# EAGLE library part MK20DXXXXVLH7 (library lib_stankus)
Freescale MK20DXxxxVLH7 Farnell #2133573
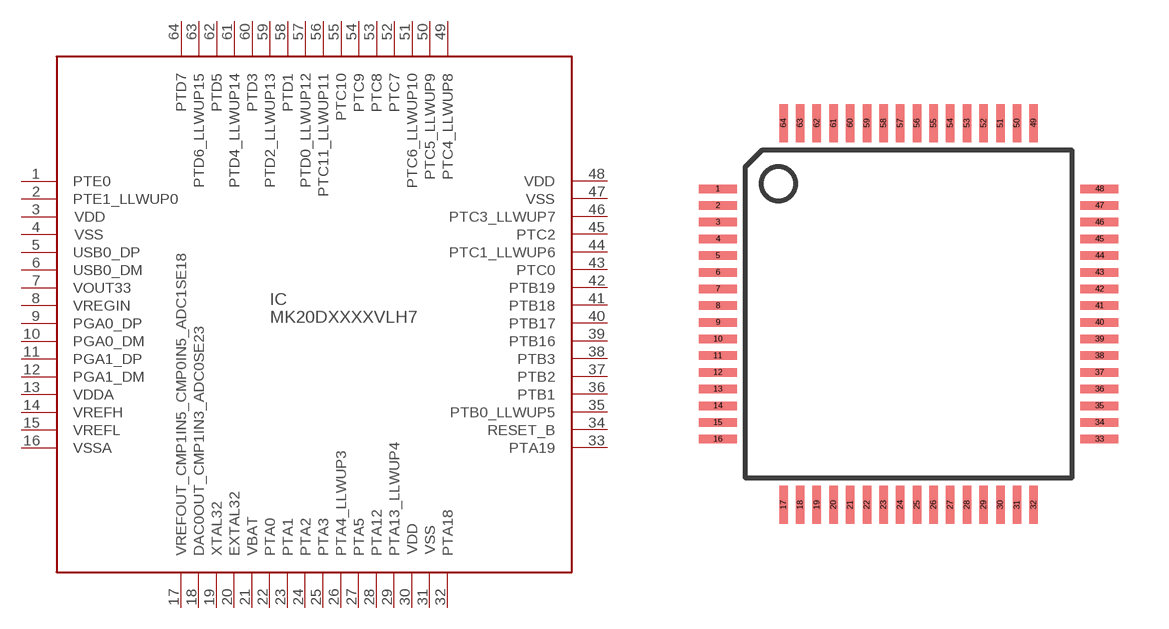
[diagram p80: symbol with the pads of QFP64_10_05; footprint QFP64_10_05]

Designator prefix IC

## MK20DXXXXVLH7-QFP64  [QFP64_10_05]
1  PTE0  pas
2  PTE1_LLWUP0  pas
3  VDD  pas
4  VSS  pas
5  USB0_DP  pas
6  USB0_DM  pas
7  VOUT33  pas
8  VREGIN  pas
9  PGA0_DP  pas
10  PGA0_DM  pas
11  PGA1_DP  pas
12  PGA1_DM  pas
13  VDDA  pas
14  VREFH  pas
15  VREFL  pas
16  VSSA  pas
17  VREFOUT_CMP1IN5_CMP0IN5_ADC1SE18  pas
18  DAC0OUT_CMP1IN3_ADC0SE23  pas
19  XTAL32  pas
20  EXTAL32  pas
21  VBAT  pas
22  PTA0  pas
23  PTA1  pas
24  PTA2  pas
25  PTA3  pas
26  PTA4_LLWUP3  pas
27  PTA5  pas
28  PTA12  pas
29  PTA13_LLWUP4  pas
30  VDD  pas
31  VSS  pas
32  PTA18  pas
33  PTA19  pas
34  RESET_B  pas
35  PTB0_LLWUP5  pas
36  PTB1  pas
37  PTB2  pas
38  PTB3  pas
39  PTB16  pas
40  PTB17  pas
41  PTB18  pas
42  PTB19  pas
43  PTC0  pas
44  PTC1_LLWUP6  pas
45  PTC2  pas
46  PTC3_LLWUP7  pas
47  VSS  pas
48  VDD  pas
49  PTC4_LLWUP8  pas
50  PTC5_LLWUP9  pas
51  PTC6_LLWUP10  pas
52  PTC7  pas
53  PTC8  pas
54  PTC9  pas
55  PTC10  pas
56  PTC11_LLWUP11  pas
57  PTD0_LLWUP12  pas
58  PTD1  pas
59  PTD2_LLWUP13  pas
60  PTD3  pas
61  PTD4_LLWUP14  pas
62  PTD5  pas
63  PTD6_LLWUP15  pas
64  PTD7  pas

## Footprint QFP64_10_05 (pad centres in mm)
QFP64, 10x10 MM, 0.5 MM
smd 1.143 x 0.254: 1 -5.72,3.75; 2 -5.72,3.25; 3 -5.72,2.75; 4 -5.72,2.25; 5 -5.72,1.75; 6 -5.72,1.25; 7 -5.72,0.75; 8 -5.72,0.25; 9 -5.72,-0.25; 10 -5.72,-0.75; 11 -5.72,-1.25; 12 -5.72,-1.75; 13 -5.72,-2.25; 14 -5.72,-2.75; 15 -5.72,-3.25; 16 -5.72,-3.75; 33 5.72,-3.75; 34 5.72,-3.25; 35 5.72,-2.75; 36 5.72,-2.25; 37 5.72,-1.75; 38 5.72,-1.25; 39 5.72,-0.75; 40 5.72,-0.25; 41 5.72,0.25; 42 5.72,0.75; 43 5.72,1.25; 44 5.72,1.75; 45 5.72,2.25; 46 5.72,2.75; 47 5.72,3.25; 48 5.72,3.75
smd 0.254 x 1.143: 17 -3.75,-5.72; 18 -3.25,-5.72; 19 -2.75,-5.72; 20 -2.25,-5.72; 21 -1.75,-5.72; 22 -1.25,-5.72; 23 -0.75,-5.72; 24 -0.25,-5.72; 25 0.25,-5.72; 26 0.75,-5.72; 27 1.25,-5.72; 28 1.75,-5.72; 29 2.25,-5.72; 30 2.75,-5.72; 31 3.25,-5.72; 32 3.75,-5.72; 49 3.75,5.72; 50 3.25,5.72; 51 2.75,5.72; 52 2.25,5.72; 53 1.75,5.72; 54 1.25,5.72; 55 0.75,5.72; 56 0.25,5.72; 57 -0.25,5.72; 58 -0.75,5.72; 59 -1.25,5.72; 60 -1.75,5.72; 61 -2.25,5.72; 62 -2.75,5.72; 63 -3.25,5.72; 64 -3.75,5.72